# EAGLE library part TPA3144D2PWP (library Fancy_InternetRadio)
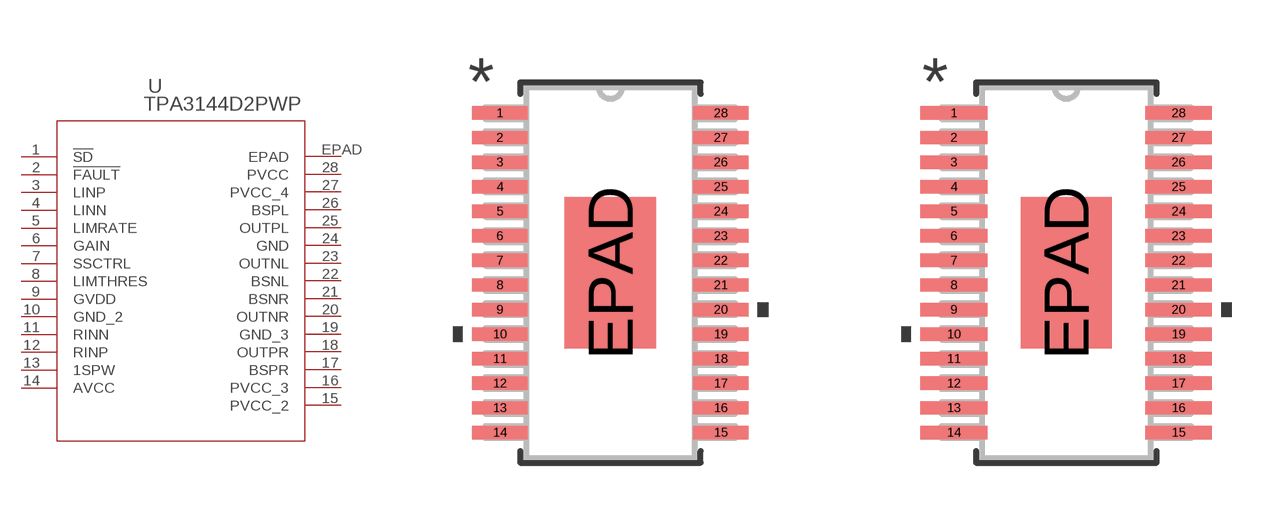
[diagram p3: symbol with the pads of PWP28_2P4X3.4_TEX; footprints PWP28_2P4X3.4_TEX, PWP28_2P4X3.4_TEX-M]

Designator prefix U

## TPA3144D2PWP (BUILT_BY: EMA_Molly; COPYRIGHT: Copyright (C) 2018 Accelerated Designs. All rights reserved; MANUFACTURER_PART_NUMBER: TPA3144D2PWP; SOURCELIBRARY: TI_2019-05-11; VENDOR: Texas Instruments)  [PWP28_2P4X3.4_TEX]
1  !SD  pas
2  !FAULT  pas
3  LINP  pas
4  LINN  pas
5  LIMRATE  pas
6  GAIN  pas
7  SSCTRL  pas
8  LIMTHRES  pas
9  GVDD  pwr
10  GND_2  pas
11  RINN  pas
12  RINP  pas
13  1SPW  pas
14  AVCC  pas
15  PVCC_2  pas
16  PVCC_3  pas
17  BSPR  pas
18  OUTPR  out
19  GND_3  pas
20  OUTNR  out
21  BSNR  pas
22  BSNL  pas
23  OUTNL  out
24  GND  pas
25  OUTPL  out
26  BSPL  pas
27  PVCC_4  pas
28  PVCC  pas
EPAD  EPAD  pas

## TPA3144D2PWPPWP28_2P4X3.4_TEX-M (BUILT_BY: EMA_Molly; COPYRIGHT: Copyright (C) 2018 Accelerated Designs. All rights reserved; MANUFACTURER_PART_NUMBER: TPA3144D2PWP; SOURCELIBRARY: TI_2019-05-11; VENDOR: Texas Instruments)  [PWP28_2P4X3.4_TEX-M]
Pads as for PWP28_2P4X3.4_TEX

## TPA3144D2PWPPWP28_2P4X3.4_TEX-L (BUILT_BY: EMA_Molly; COPYRIGHT: Copyright (C) 2018 Accelerated Designs. All rights reserved; MANUFACTURER_PART_NUMBER: TPA3144D2PWP; SOURCELIBRARY: TI_2019-05-11; VENDOR: Texas Instruments)  [PWP28_2P4X3.4_TEX-L]
Pads as for PWP28_2P4X3.4_TEX

## Footprint PWP28_2P4X3.4_TEX (pad centres in mm)
smd 1.462 x 0.355: 1 -2.921,4.225; 2 -2.921,3.575; 3 -2.921,2.925; 4 -2.921,2.275; 5 -2.921,1.625; 6 -2.921,0.975; 7 -2.921,0.325; 8 -2.921,-0.325; 9 -2.921,-0.975; 10 -2.921,-1.625; 11 -2.921,-2.275; 12 -2.921,-2.925; 13 -2.921,-3.575; 14 -2.921,-4.225; 15 2.921,-4.225; 16 2.921,-3.575; 17 2.921,-2.925; 18 2.921,-2.275; 19 2.921,-1.625; 20 2.921,-0.975; 21 2.921,-0.325; 22 2.921,0.325; 23 2.921,0.975; 24 2.921,1.625; 25 2.921,2.275; 26 2.921,2.925; 27 2.921,3.575; 28 2.921,4.225
smd 2.413 x 4.013: EPAD 0,0

## Footprint PWP28_2P4X3.4_TEX-M (pad centres in mm)
smd 1.762 x 0.355: 1 -2.971,4.225; 2 -2.971,3.575; 3 -2.971,2.925; 4 -2.971,2.275; 5 -2.971,1.625; 6 -2.971,0.975; 7 -2.971,0.325; 8 -2.971,-0.325; 9 -2.971,-0.975; 10 -2.971,-1.625; 11 -2.971,-2.275; 12 -2.971,-2.925; 13 -2.971,-3.575; 14 -2.971,-4.225; 15 2.971,-4.225; 16 2.971,-3.575; 17 2.971,-2.925; 18 2.971,-2.275; 19 2.971,-1.625; 20 2.971,-0.975; 21 2.971,-0.325; 22 2.971,0.325; 23 2.971,0.975; 24 2.971,1.625; 25 2.971,2.275; 26 2.971,2.925; 27 2.971,3.575; 28 2.971,4.225
smd 2.413 x 4.013: EPAD 0,0

## Footprint PWP28_2P4X3.4_TEX-L (pad centres in mm)
smd 1.162 x 0.305: 1 -2.871,4.225; 2 -2.871,3.575; 3 -2.871,2.925; 4 -2.871,2.275; 5 -2.871,1.625; 6 -2.871,0.975; 7 -2.871,0.325; 8 -2.871,-0.325; 9 -2.871,-0.975; 10 -2.871,-1.625; 11 -2.871,-2.275; 12 -2.871,-2.925; 13 -2.871,-3.575; 14 -2.871,-4.225; 15 2.871,-4.225; 16 2.871,-3.575; 17 2.871,-2.925; 18 2.871,-2.275; 19 2.871,-1.625; 20 2.871,-0.975; 21 2.871,-0.325; 22 2.871,0.325; 23 2.871,0.975; 24 2.871,1.625; 25 2.871,2.275; 26 2.871,2.925; 27 2.871,3.575; 28 2.871,4.225
smd 2.413 x 4.013: EPAD 0,0